# Altium schematic symbol library SMAW200A.SchLib: 1 symbol
Pins are listed as number, name and electrical type; pins without a type are passive.

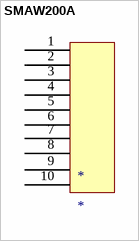
[diagram p0: symbol SMAW200A]

## SMAW200A
designator *
footprint SMAW200A
pins: 1 69, 2 70, 3 71, 4 72, 5 73, 6 74, 7 75, 8 76, 9 77, 10 78